# EAGLE library part RF1200 (library rf-micro-devices)
RF-SWITCH
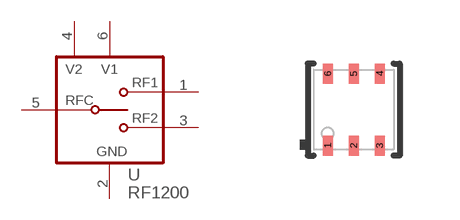
[diagram p3: symbol with the pads of QFN6; footprint QFN6]

Designator prefix U; gates G$1=RFSW-CTRL G$2=RFSW-SPDT

## RF1200  [QFN6]
1  G$2:RF1
2  G$1:GND  pwr
3  G$2:RF2
4  G$1:V2  in
5  G$2:RFC
6  G$1:V1  in

## Footprint QFN6 (pad centres in mm)
QFN 6 body 2x2mm, pitch 0.65mm
smd 0.25 x 0.5: 1 -0.65,-0.9; 2 0,-0.9; 3 0.65,-0.9; 4 0.65,0.9; 5 0,0.9; 6 -0.65,0.9